# Altium schematic symbol library EL2501S.SchLib: 1 symbol
Pins are listed as number, name and electrical type; pins without a type are passive.

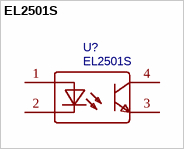
[diagram p0: symbol EL2501S]

## EL2501S
designator U?
光耦; Manufacturer: EVERLIGHT(亿光); Manufacturer Part: EL2501S(K)(TU)-G; Supplier: LCSC; Supplier Part: C62440; JLCPCB Part Class: Extended Part; spicePre: U; spiceSymbolName: EL2501S(K)(TU)-G
footprint OPTO-SMD-4_L4.6-W6.5-P2.54-LS10.3-TL
pins: 1 AN, 2 CAT, 3 EM, 4 COL